# Altium footprint library MICROFJ40035TSVTR1.PcbLib: 1 footprints
Each footprint in its own frame and in the unit in brackets; x right, y up, seen from the top. Pads: shape width x height; smd on the part's side, far side on the other; paste and mask are expansions set on the pad; w line width, h text height; cw(c..) or ccw(c..) is an arc to the next point about the centre after c.
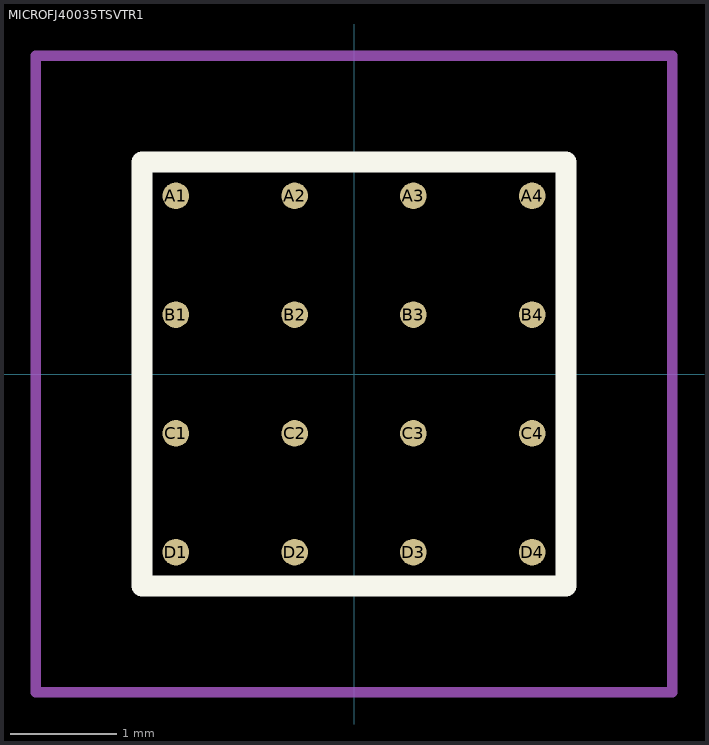
[diagram p0: the footprint, top view; thin cyan lines are the x and y axes]

## MICROFJ40035TSVTR1 [mm]
pads (16):
  round 0.25 smd: A1(-1.68,1.68) A2(-0.56,1.68) A3(0.56,1.68) A4(1.68,1.68) B1(-1.68,0.56) B2(-0.56,0.56) B3(0.56,0.56) B4(1.68,0.56) C1(-1.68,-0.56) C2(-0.56,-0.56) C3(0.56,-0.56) C4(1.68,-0.56) D1(-1.68,-1.68) D2(-0.56,-1.68) D3(0.56,-1.68) D4(1.68,-1.68)
Top Overlay:
  lines w0.2: -2,-2 2,-2 2,2 -2,2 -2,-2
Mechanical 15:
  lines w0.1: -2,-2 -2,2 2,2 2,-2 -2,-2
Mechanical 20:
  lines w0.1: -3,-3 -3,3 3,3 3,-3 -3,-3